# EAGLE library part LTC3558 (library seb)
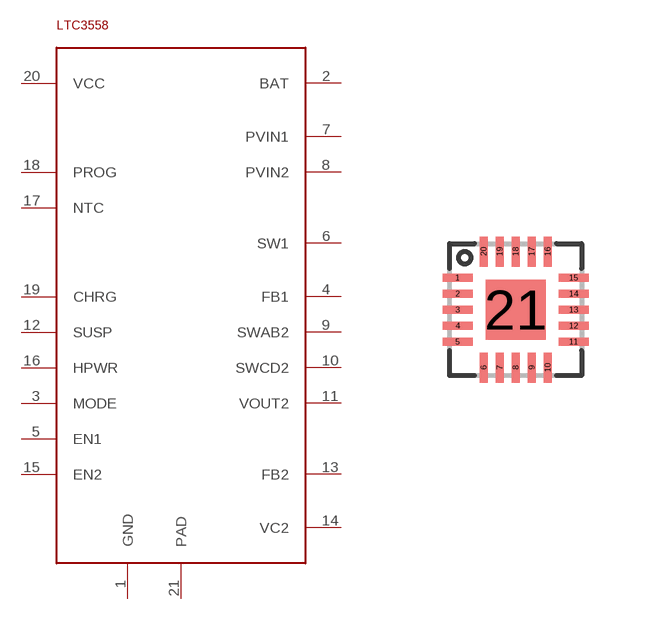
[diagram p5: symbol with the pads of UD-QFN20; footprint UD-QFN20]

Designator prefix IC

## LTC3558  [UD-QFN20]
1  GND
2  BAT
3  MODE
4  FB1
5  EN1
6  SW1
7  PVIN1
8  PVIN2
9  SWAB2
10  SWCD2
11  VOUT2
12  SUSP
13  FB2
14  VC2
15  EN2
16  HPWR
17  NTC
18  PROG
19  CHRG
20  VCC
21  PAD

## Footprint UD-QFN20 (pad centres in mm)
smd 0.751 x 0.2: 1 -1.451,0.8; 2 -1.451,0.4; 3 -1.451,0; 4 -1.451,-0.4; 5 -1.451,-0.8; 11 1.451,-0.8; 12 1.451,-0.4; 13 1.451,0; 14 1.451,0.4; 15 1.451,0.8
smd 0.2 x 0.751: 6 -0.8,-1.451; 7 -0.4,-1.451; 8 0,-1.451; 9 0.4,-1.451; 10 0.8,-1.451; 16 0.8,1.451; 17 0.4,1.451; 18 0,1.451; 19 -0.4,1.451; 20 -0.8,1.451
smd 1.5 x 1.5: 21 0,0